# EAGLE library part MC74HC08 (library PP_DigitalIC)
Manufacturer Part #: MC74HC08 Manufacturer: ON Semiconductor Description: Logic Gates 2-6V Quad 2-Input AND
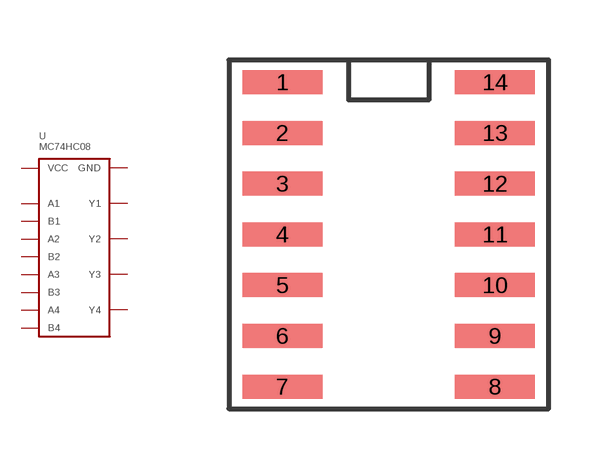
[diagram p16: symbol with the pads of MC74HC08_SOIC-14; footprint MC74HC08_SOIC-14]

Designator prefix U

## MC74HC08AD  [MC74HC08_SOIC-14]
1  A1
2  B1
3  Y1
4  A2
5  B2
6  Y2
7  GND
8  Y3
9  A3
10  B3
11  Y4
12  A4
13  B4
14  VCC

## Footprint MC74HC08_SOIC-14 (pad centres in mm)
smd 2 x 0.6: 1 -2.66,3.81; 2 -2.66,2.54; 3 -2.66,1.27; 4 -2.66,0; 5 -2.66,-1.27; 6 -2.66,-2.54; 7 -2.66,-3.81; 8 2.66,-3.81; 9 2.66,-2.54; 10 2.66,-1.27; 11 2.66,0; 12 2.66,1.27; 13 2.66,2.54; 14 2.66,3.81